# Altium integrated library smart-clock-lib.IntLib: 15 symbols
Pins are listed as number, name and electrical type; pins without a type are passive.

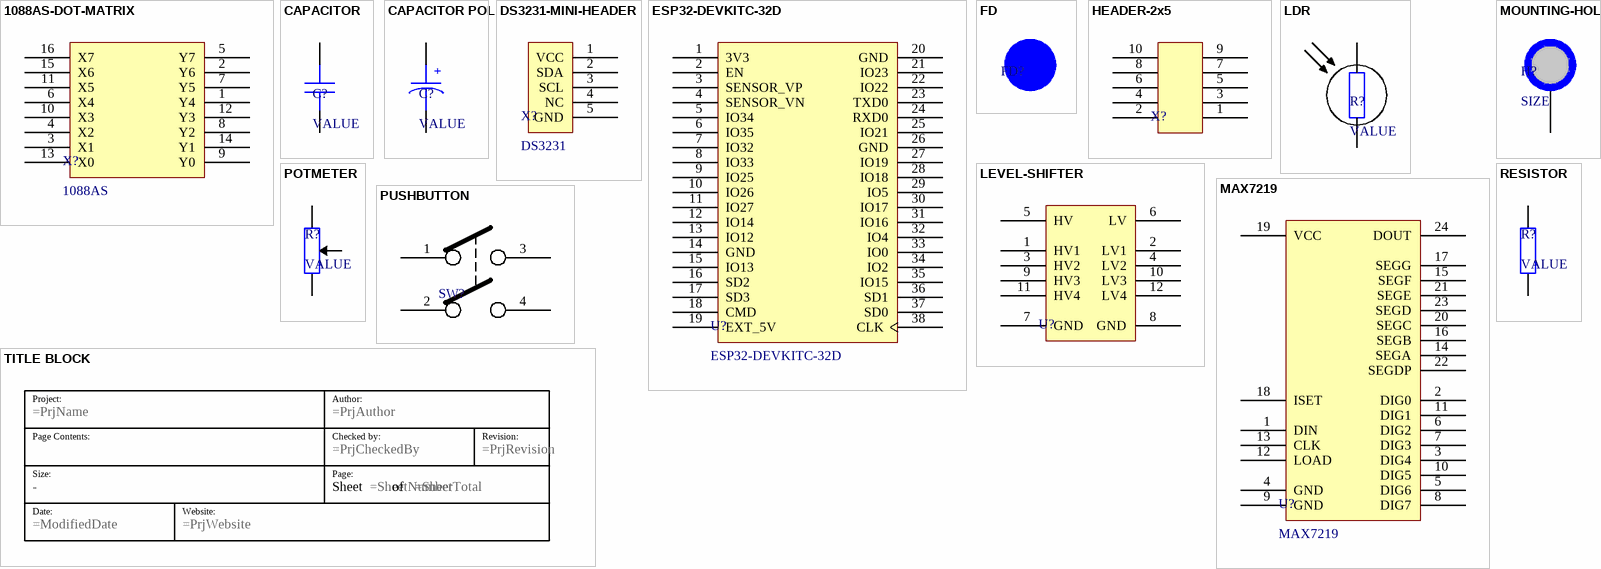
[diagram p0: symbols 1088AS-DOT-MATRIX to TITLE BLOCK]

## 1088AS-DOT-MATRIX
designator X?, comment 1088AS
8x8 DOT MATRIX LED DISPLAY
footprint 1088AS-DOT-MATRIX-8x8 (8x8 DOT MATRIX DISPLAY)
pins: 1 Y4, 2 Y6, 3 X1, 4 X2, 5 Y7, 6 X4, 7 Y5, 8 Y2, 9 Y0, 10 X3, 11 X5, 12 Y3, 13 X0, 14 Y1, 15 X6, 16 X7

## CAPACITOR
designator C?, comment VALUE
GENERIC CAPACITOR
footprint TH-CAPACITOR
footprint TH-CAPACITOR - ANGLE
pins: 1, 2

## CAPACITOR POL
designator C?, comment VALUE
POLARIZED CAPACITOR
footprint TH-CAPACITOR - POL - ANGLE
pins: 1, 2
text: +

## DS3231-MINI-HEADER
designator X?, comment DS3231
DS3231 REAL TIME CLOCK
footprint DS3231-MINI
pins: 1 VCC, 2 SDA, 3 SCL, 4 NC, 5 GND

## ESP32-DEVKITC-32D
designator U?
MF: Espressif Systems; Package: None; Price: None; Availability: Unavailable; MP: ESP32-DEVKITC-32D; SnapEDA_Link: https://www.snapeda.com/parts/ESP32-DEVKITC-32D/Espressif%20Systems/view-part/2777395/?ref=snap; Value: *
footprint ESP32-DEVKITC-32D
pins: 1 3V3 (power), 2 EN, 3 SENSOR_VP, 4 SENSOR_VN, 5 IO34, 6 IO35, 7 IO32, 8 IO33, 9 IO25, 10 IO26, 11 IO27, 12 IO14, 13 IO12, 14 GND (power), 15 IO13, 16 SD2, 17 SD3, 18 CMD, 19 EXT_5V, 20 GND (power), 21 IO23, 22 IO22, 23 TXD0, 24 RXD0, 25 IO21, 26 GND (power), 27 IO19, 28 IO18, 29 IO5, 30 IO17, 31 IO16, 32 IO4, 33 IO0, 34 IO2, 35 IO15, 36 SD1, 37 SD0, 38 CLK

## FD
designator FD?  (value not drawn)
FIDUCIAL MARKER
footprint FD (FIDUCIAL MARKER)
pins: 1

## HEADER-2x5
designator X?  (value not drawn)
2.54mm HEADER 2x5
footprint HEADER-2x5-FEMALE (2.54mm FEMALE HEADER - 2x5)
footprint HEADER-2x5-MALE (2.54mm MALE HEADER - 2x5)
pins: 1, 2, 3, 4, 5, 6, 7, 8, 9, 10

## LDR
designator R?, comment VALUE
LIGHT DEPENDENT RESISTOR
footprint TH-LDR
pins: 1, 2

## LEVEL-SHIFTER
designator U?  (value not drawn)
BI-DIRECTIONAL LEVEL SHIFTER
footprint LEVEL-SHIFTER (3.3V TO 5V LEVEL SHIFTER)
pins: 1 HV1, 2 LV1, 3 HV2, 4 LV2, 5 HV, 6 LV, 7 GND, 8 GND, 9 HV3, 10 LV3, 11 HV4, 12 LV4

## MAX7219
designator U?
IC DRVR 7 SEGMNT 8 DIGIT 24SOIC; MF: Maxim Integrated; Digi-Key_Purchase_URL: https://www.digikey.com/product-detail/en/maxim-integrated/MAX7219CWG-T/MAX7219CWG-TCT-ND/4146791?utm_source=snapeda&utm_medium=aggregator&utm_campaign=symbol; Digi-Key_Part_Number: MAX7219CWG+TCT-ND; Package: DIP-24 Maxim Integrated; SnapEDA_Link: https://www.snapeda.com/parts/MAX7219/Maxim%20Integrated/view-part/481049/?ref=snap; MP: MAX7219; Value: *
footprint DIP-24 WITH SOCKET (DIP-24 PACKAGE WITH SOCKET)
pins: 1 DIN, 2 DIG0, 3 DIG4, 4 GND, 5 DIG6, 6 DIG2, 7 DIG3, 8 DIG7, 9 GND, 10 DIG5, 11 DIG1, 12 LOAD, 13 CLK, 14 SEGA, 15 SEGF, 16 SEGB, 17 SEGG, 18 ISET, 19 VCC, 20 SEGC, 21 SEGE, 22 SEGDP, 23 SEGD, 24 DOUT

## MOUNTING-HOLE
designator H?, comment SIZE
M3 MOUNTING HOLE WITH SCREW AND SPACER
footprint HOLE (M3 SCREW HOLE)
pins: 1

## POTMETER
designator R?, comment VALUE
POTMETER
footprint POTENTIOMETER
pins: 1, 2, 3

## PUSHBUTTON
designator SW?
PUSHBUTTON
footprint TH-PUSHBUTTON (THROUGH HOLE PUSHBUTTON)
pins: 1, 2, 3, 4

## RESISTOR
designator R?, comment VALUE
GENERIC RESISTOR
footprint AXIAL RESISTOR (STANDARD AXIAL RESISTOR)
pins: 1, 2

## TITLE BLOCK
designator *  (value not drawn)  (graphical)
TITLE BLOCK; Size: -
text: Project:; Author:; Page Contents:; Checked by:; Revision:; Size:; Page:; Sheet; of; Date:; Website: